# EAGLE library part BTHQ21605 (library gw10)
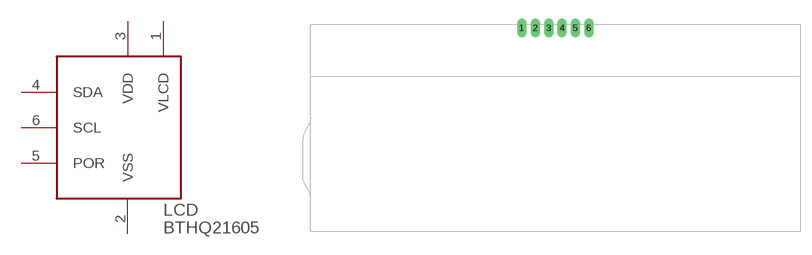
[diagram p2: symbol with the pads of BTHQ21605; footprint BTHQ21605]

Designator prefix LCD

## BTHQ21605  [BTHQ21605]
1  VLCD  out
2  VSS  pwr
3  VDD  pwr
4  SDA  oc
5  POR  in
6  SCL  oc

## Footprint BTHQ21605 (pad centres in mm)
drill 0.8 long: 1 -4.5,0; 2 -2.7,0; 3 -0.9,0; 4 0.9,0; 5 2.7,0; 6 4.5,0